# Altium schematic symbol library SamacSys.SchLib: 171 symbols (part 1 of 3)
Pins are listed as number, name and electrical type; pins without a type are passive.

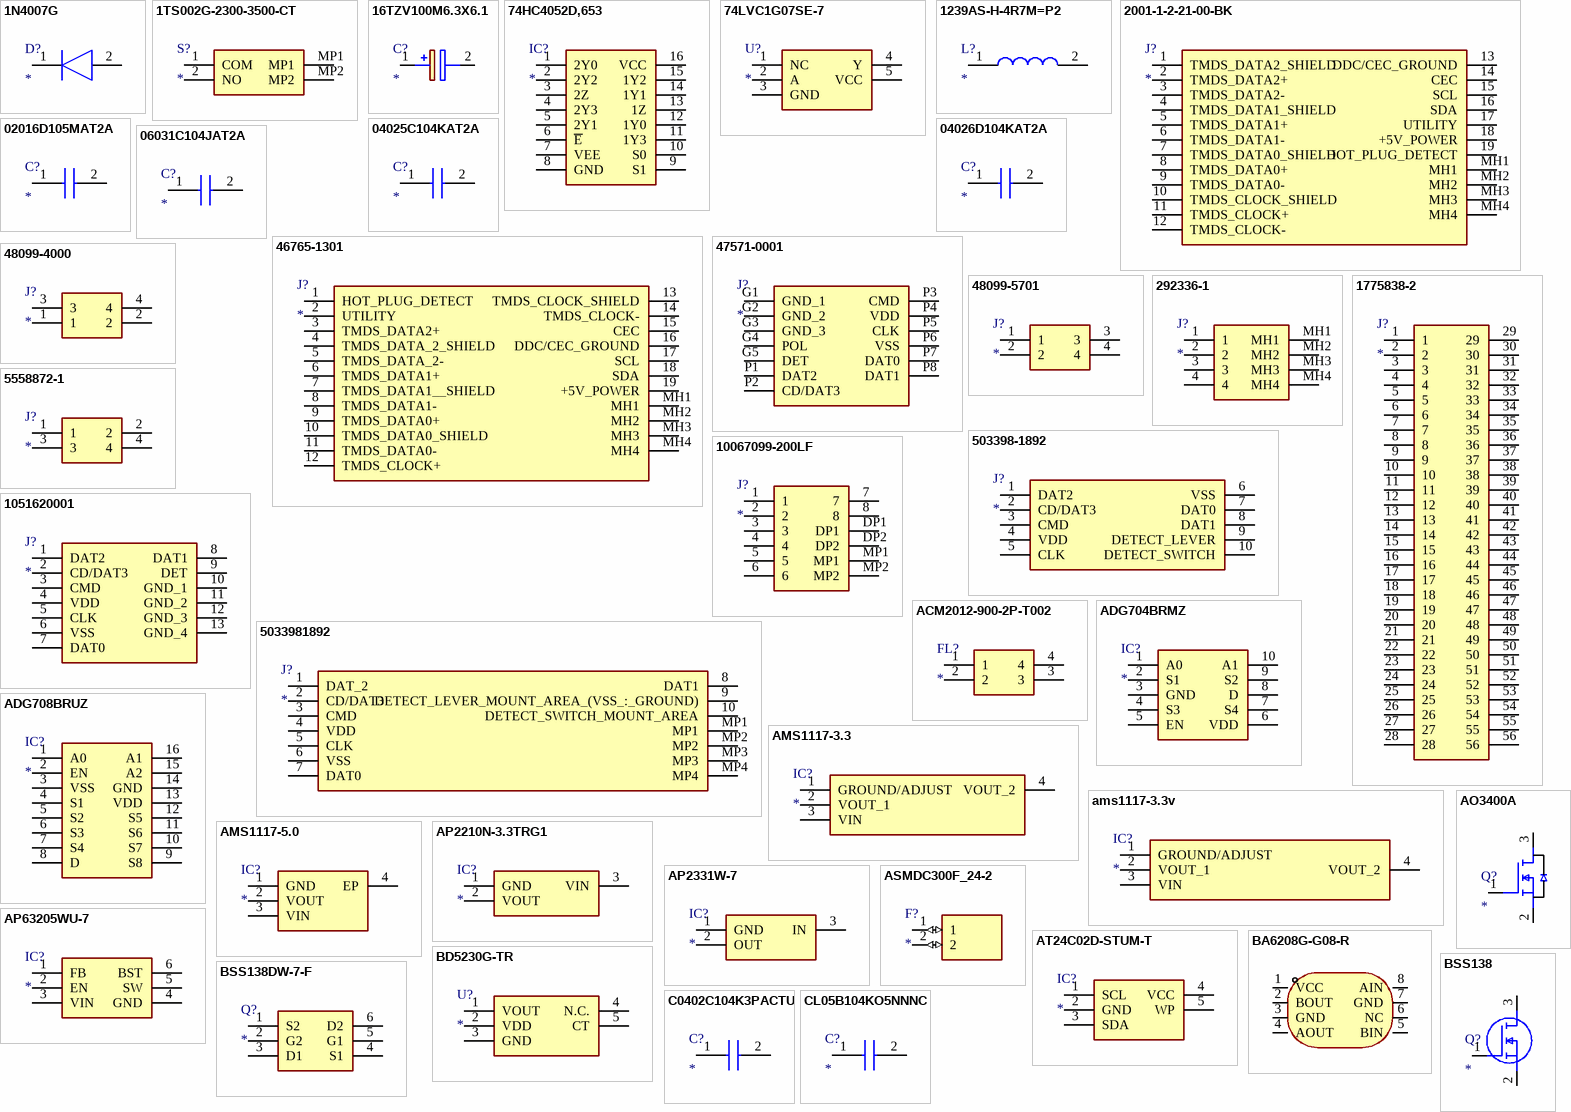
[diagram p0: symbols 1N4007G to CL05B104KO5NNNC]

## 1N4007G
designator D?
Diode; Manufacturer_Name: Shikues; Manufacturer_Part_Number: 1N4007G; Datasheet Link: https://datasheet.lcsc.com/szlcsc/SK-1N4007G_C111122.pdf; Height: 2.2mm
footprint DIOM5025X220N
pins: 1 K, 2 A

## 1TS002G-2300-3500-CT
designator S?
Switch; Manufacturer_Name: HYP (Hongyuan Precision); Manufacturer_Part_Number: 1TS002G-2300-3500-CT; Datasheet Link: https://datasheet.lcsc.com/szlcsc/HYP-1TS002G-2300-3500_C319377.pdf; Height: 3.5mm
footprint 1TS002G23003500CT
pins: 1 COM, 2 NO, MP1, MP2

## 16TZV100M6.3X6.1
designator C?
Capacitor Polarised; Manufacturer_Name: Rubycon; Manufacturer_Part_Number: 16TZV100M6.3X6.1; Datasheet Link: http://www.rubycon.co.jp/catalog/j_pdfs/aluminum/j_TZV.pdf; Height: 6.1mm; Mouser Part Number: 232-16TZV100M6.3X6.1; Mouser Price/Stock: https://www.mouser.com/Search/Refine.aspx?Keyword=232-16TZV100M6.3X6.1
footprint 16TZV100M63X61
pins: 1 +, 2 -

## 74HC4052D,653
designator IC?
Integrated Circuit; Manufacturer_Name: Nexperia; Manufacturer_Part_Number: 74HC4052D,653; Datasheet Link: https://assets.nexperia.com/documents/data-sheet/74HC_HCT4052.pdf; Height: 1.75mm; Mouser Part Number: 771-74HC4052D-T; Mouser Price/Stock: https://www.mouser.co.uk/ProductDetail/Nexperia/74HC4052D653?qs=P62ublwmbi9dOtwH%252Bhrppg%3D%3D; Arrow Part Number: 74HC4052D,653; Arrow Price/Stock: https://www.arrow.com/en/products/74hc4052d653/nexperia?region=europe
footprint 74HC4052D653
pins: 1 2Y0, 2 2Y2, 3 2Z, 4 2Y3, 5 2Y1, 6 ~{E}, 7 VEE, 8 GND, 9 S1, 10 S0, 11 1Y3, 12 1Y0, 13 1Z, 14 1Y1, 15 1Y2, 16 VCC

## 74LVC1G07SE-7
designator U?
Undefined or Miscellaneous; Manufacturer_Name: Diodes Inc.; Manufacturer_Part_Number: 74LVC1G07SE-7; Datasheet Link: https://componentsearchengine.com/Datasheets/2/74LVC1G07SE-7.pdf; Height: 1.1mm; Mouser Part Number: 621-74LVC1G07SE-7; Mouser Price/Stock: https://www.mouser.co.uk/ProductDetail/Diodes-Incorporated/74LVC1G07SE-7/?qs=abZ1nkZpTuNoZmx9wrxFdA%3D%3D; Arrow Part Number: 74LVC1G07SE-7; Arrow Price/Stock: https://www.arrow.com/en/products/74lvc1g07se-7/diodes-incorporated
footprint SOT65P210X110-5N
pins: 1 NC, 2 A, 3 GND, 4 Y, 5 VCC

## 1239AS-H-4R7M=P2
designator L?
Inductor; Manufacturer_Name: Murata Electronics; Manufacturer_Part_Number: 1239AS-H-4R7M=P2; Datasheet Link: https://psearch.en.murata.com/inductor/product/1239AS-H-4R7M%23.html; Height: 1.2mm; Arrow Part Number: 1239AS-H-4R7M=P2; Arrow Price/Stock: https://www.arrow.com/en/products/1239as-h-4r7mp2/murata-manufacturing; Mouser Part Number: 81-1239AS-H-4R7MP2; Mouser Price/Stock: https://www.mouser.co.uk/ProductDetail/Murata-Electronics/1239AS-H-4R7M%3dP2?qs=KuGPmAKtFKX7SH37MciNXQ%3D%3D
footprint DFE2HCAH1R0MJ0L
pins: 1, 2

## 2001-1-2-21-00-BK
designator J?
Connector; Manufacturer_Name: CNC Tech; Manufacturer_Part_Number: 2001-1-2-21-00-BK; Datasheet Link: http://cnctech.us/pdfs/2001-1-2-21-00-BK.pdf; Height: 3.3mm
footprint 2001122100BK
pins: 1 TMDS_DATA2_SHIELD, 2 TMDS_DATA2+, 3 TMDS_DATA2-, 4 TMDS_DATA1_SHIELD, 5 TMDS_DATA1+, 6 TMDS_DATA1-, 7 TMDS_DATA0_SHIELD, 8 TMDS_DATA0+, 9 TMDS_DATA0-, 10 TMDS_CLOCK_SHIELD, 11 TMDS_CLOCK+, 12 TMDS_CLOCK-, 13 DDC/CEC_GROUND, 14 CEC, 15 SCL, 16 SDA, 17 UTILITY, 18 +5V_POWER, 19 HOT_PLUG_DETECT, MH1, MH2, MH3, MH4

## 02016D105MAT2A
designator C?
Capacitor; Manufacturer_Name: AVX; Manufacturer_Part_Number: 02016D105MAT2A; Datasheet Link: http://www.mouser.com/catalog/supplier/library/pdf/AVXSurfaceMountCeramic.pdf; Height: 0.33mm; Mouser Part Number: 581-02016D105MAT2A; Mouser Price/Stock: https://www.mouser.co.uk/ProductDetail/AVX/02016D105MAT2A?qs=RC%2FTMc7rOJYRv3ejaJ2Ykg%3D%3D; Arrow Part Number: 02016D105MAT2A; Arrow Price/Stock: https://www.arrow.com/en/products/02016d105mat2a/avx
footprint CAPC0603X33N
pins: 1, 2

## 04025C104KAT2A
designator C?
Capacitor; Manufacturer_Name: AVX; Manufacturer_Part_Number: 04025C104KAT2A; Datasheet Link: http://www.mouser.com/catalog/supplier/library/pdf/AVXSurfaceMountCeramic.pdf; Height: 0.56mm; Mouser Part Number: 581-04025C104KAT2A; Mouser Price/Stock: https://www.mouser.co.uk/ProductDetail/AVX/04025C104KAT2A?qs=ZBeOGGPQgEFYcwOskjAIVQ%3D%3D; Arrow Part Number: 04025C104KAT2A; Arrow Price/Stock: https://www.arrow.com/en/products/04025c104kat2a/avx
footprint CAPC1005X56N
pins: 1, 2

## 04026D104KAT2A
designator C?
Capacitor; Manufacturer_Name: AVX; Manufacturer_Part_Number: 04026D104KAT2A; Datasheet Link: http://www.mouser.com/catalog/supplier/library/pdf/AVXSurfaceMountCeramic.pdf; Height: 0.56mm; Mouser Part Number: 581-04026D104KAT2A; Mouser Price/Stock: https://www.mouser.co.uk/ProductDetail/AVX/04026D104KAT2A?qs=LLG2yGGJ5NhILwMziGI8Xg%3D%3D; Arrow Part Number: 04026D104KAT2A; Arrow Price/Stock: https://www.arrow.com/en/products/04026d104kat2a/avx
footprint CAPC1005X56N
pins: 1, 2

## 06031C104JAT2A
designator C?
Capacitor; Manufacturer_Name: AVX; Manufacturer_Part_Number: 06031C104JAT2A; Datasheet Link: https://componentsearchengine.com/Datasheets/1/06031A100FAT2A.pdf; Height: 0.9mm; Mouser Part Number: 581-06031C104JAT2A; Mouser Price/Stock: https://www.mouser.co.uk/ProductDetail/AVX/06031C104JAT2A?qs=%252BdQmOuGyFcHScrgcFLN%252BzA%3D%3D; Arrow Part Number: 06031C104JAT2A; Arrow Price/Stock: https://www.arrow.com/en/products/06031c104jat2a/avx
footprint CAPC1608X90N
pins: 1, 2

## 46765-1301
designator J?
Connector; Manufacturer_Name: Molex; Manufacturer_Part_Number: 46765-1301; Datasheet Link: https://www.molex.com/content/dam/molex/molex-dot-com/products/automated/en-us/salesdrawingpdf/467/46765/467651301_sd.pdf?inline; Height: 3.05mm; Mouser Part Number: 538-46765-1301; Mouser Price/Stock: https://www.mouser.co.uk/ProductDetail/Molex/46765-1301?qs=73RpG39PUGhn7Y4KPCbKEQ%3D%3D
footprint 467651301
pins: 1 HOT_PLUG_DETECT, 2 UTILITY, 3 TMDS_DATA2+, 4 TMDS_DATA_2_SHIELD, 5 TMDS_DATA_2-, 6 TMDS_DATA1+, 7 TMDS_DATA1__SHIELD, 8 TMDS_DATA1-, 9 TMDS_DATA0+, 10 TMDS_DATA0_SHIELD, 11 TMDS_DATA0-, 12 TMDS_CLOCK+, 13 TMDS_CLOCK_SHIELD, 14 TMDS_CLOCK-, 15 CEC, 16 DDC/CEC_GROUND, 17 SCL, 18 SDA, 19 +5V_POWER, MH1, MH2, MH3, MH4

## 47571-0001
designator J?
Connector; Manufacturer_Name: Molex; Manufacturer_Part_Number: 47571-0001; Datasheet Link: https://componentsearchengine.com/Datasheets/2/47571-0001.pdf; Height: 2.3mm; Mouser Part Number: 538-47571-0001; Mouser Price/Stock: https://www.mouser.co.uk/ProductDetail/Molex/47571-0001?qs=qM7ngqbhX5UTJOg9nqKLJQ%3D%3D
footprint 475710001
pins: G1 GND_1, G2 GND_2, G3 GND_3, G4 POL, G5 DET, P1 DAT2, P2 CD/DAT3, P3 CMD, P4 VDD, P5 CLK, P6 VSS, P7 DAT0, P8 DAT1

## 48099-4000
designator J?
Connector; Manufacturer_Name: Molex; Manufacturer_Part_Number: 48099-4000; Datasheet Link: https://media.digikey.com/pdf/Data%20Sheets/Molex%20PDFs/480994000_Dwg.pdf; Height: 4.8mm; Mouser Part Number: 538-48099-4000; Mouser Price/Stock: https://www.mouser.co.uk/ProductDetail/Molex/48099-4000?qs=dsreSLQWyj8b%2FXEoksc%2Fog%3D%3D
footprint 480994000
pins: 1, 2, 3, 4

## 48099-5701
designator J?
Connector; Manufacturer_Name: Molex; Manufacturer_Part_Number: 48099-5701; Datasheet Link: https://datasheet.datasheetarchive.com/originals/distributors/Datasheets_SAMA/61a5d9b3c9f6d95e44c9954877d313ff.pdf; Mouser Part Number: 538-48099-5701; Mouser Price/Stock: https://www.mouser.co.uk/ProductDetail/Molex/48099-5701?qs=c2CV6XM0DweysdySMlAVtg%3D%3D
footprint 0480995701
pins: 1, 2, 3, 4

## 292336-1
designator J?
Connector; Manufacturer_Name: TE Connectivity; Manufacturer_Part_Number: 292336-1; Allied_Number: 70087057; Datasheet Link: https://componentsearchengine.com/Datasheets/2/292336-1.pdf; Height: 12.6mm; Mouser Part Number: 571-292336-1; Mouser Price/Stock: https://www.mouser.com/Search/Refine.aspx?Keyword=571-292336-1; RS Part Number: 5298230P; RS Price/Stock: http://uk.rs-online.com/web/p/products/5298230P; Allied Price/Stock: https://www.alliedelec.com/teconnectivity-292336-1/70087057/
footprint 2923361
pins: 1, 2, 3, 4, MH1, MH2, MH3, MH4

## 503398-1892
designator J?
Connector; Manufacturer_Name: Molex; Manufacturer_Part_Number: 503398-1892; Datasheet Link: http://www.molex.com/webdocs/datasheets/pdf/en-us//5033981892_MEMORY_CARD_SOCKET.pdf; Mouser Part Number: 538-503398-1892; Mouser Price/Stock: https://www.mouser.co.uk/ProductDetail/Molex/503398-1892?qs=b0v8CoHHvSMxV%252BW12iKaSg%3D%3D
footprint 503398-1892
pins: 1 DAT2, 2 CD/DAT3, 3 CMD, 4 VDD, 5 CLK, 6 VSS, 7 DAT0, 8 DAT1, 9 DETECT_LEVER, 10 DETECT_SWITCH

## 1775838-2
designator J?
Connector; Manufacturer_Name: TE Connectivity; Manufacturer_Part_Number: 1775838-2; Datasheet Link: http://www.te.com/commerce/DocumentDelivery/DDEController?Action=showdoc&DocId=Customer+Drawing%7F1775838%7FH%7Fpdf%7FEnglish%7FENG_CD_1775838_H.pdf%7F1775838-2; Height: 5mm; Mouser Part Number: 571-1775838-2; Mouser Price/Stock: https://www.mouser.com/Search/Refine.aspx?Keyword=571-1775838-2; RS Part Number: 1859871; RS Price/Stock: http://uk.rs-online.com/web/p/products/1859871
footprint 17758382
pins: 1, 2, 3, 4, 5, 6, 7, 8, 9, 10, 11, 12, 13, 14, 15, 16, 17, 18, 19, 20, 21, 22, 23, 24, 25, 26, 27, 28, 29, 30, 31, 32, 33, 34, 35, 36, 37, 38, 39, 40, 41, 42, 43, 44, 45, 46, 47, 48, 49, 50, 51, 52, 53, 54, 55, 56

## 5558872-1
designator J?
Connector; Manufacturer_Name: TE Connectivity; Manufacturer_Part_Number: 5558872-1; Datasheet Link: https://www.te.com/commerce/DocumentDelivery/DDEController?Action=showdoc&DocId=Customer+Drawing%7F5558872%7FC%7Fpdf%7FEnglish%7FENG_CD_5558872_C.pdf%7F5558872-1; Height: 16.64mm; Mouser Part Number: 571-5558872-1; Mouser Price/Stock: https://www.mouser.co.uk/ProductDetail/TE-Connectivity/5558872-1?qs=fnpEE5GccuM3joL9SkwpQg%3D%3D; Arrow Part Number: 5558872-1; Arrow Price/Stock: https://www.arrow.com/en/products/5558872-1/te-connectivity?region=nac
footprint 55588721
pins: 1, 2, 3, 4

## 10067099-200LF
designator J?
Connector; Manufacturer_Name: Amphenol Communications Solutions; Manufacturer_Part_Number: 10067099-200LF; Datasheet Link: https://cdn.amphenol-cs.com/media/wysiwyg/files/drawing/10067099.pdf; Height: 2.8mm; Mouser Part Number: 649-10067099-200LF; Mouser Price/Stock: https://www.mouser.co.uk/ProductDetail/Amphenol-FCI/10067099-200LF?qs=i4V1y6YhAeneA%2F%2FxXHdZ7w%3D%3D; Arrow Part Number: 10067099-200LF; Arrow Price/Stock: https://www.arrow.com/en/products/10067099-200lf/amphenol-fci?region=nac
footprint 10067099200LF
pins: 1, 2, 3, 4, 5, 6, 7, 8, DP1, DP2, MP1, MP2

## 1051620001
designator J?
Connector; Manufacturer_Name: Molex; Manufacturer_Part_Number: 1051620001; Datasheet Link: https://www.molex.com/pdm_docs/sd/1051620001_sd.pdf; Mouser Part Number: N/A; Mouser Price/Stock: https://www.mouser.com/Search/Refine.aspx?Keyword=N%2FA; Arrow Part Number: 1051620001; Arrow Price/Stock: https://www.arrow.com/en/products/105162-0001/molex?region=nac
footprint 1051620001
pins: 1 DAT2, 2 CD/DAT3, 3 CMD, 4 VDD, 5 CLK, 6 VSS, 7 DAT0, 8 DAT1, 9 DET, 10 GND_1, 11 GND_2, 12 GND_3, 13 GND_4

## 5033981892
designator J?
Connector; Manufacturer_Name: Molex; Manufacturer_Part_Number: 5033981892; Datasheet Link: https://www.molex.com/pdm_docs/sd/5033981892_sd.pdf; Height: 1.28mm; Mouser Part Number: N/A; Mouser Price/Stock: https://www.mouser.com/Search/Refine.aspx?Keyword=N%2FA; Arrow Part Number: 5033981892; Arrow Price/Stock: https://www.arrow.com/en/products/503398-1892/molex?region=nac
footprint 5033981892
pins: 1 DAT_2, 2 CD/DAT3, 3 CMD, 4 VDD, 5 CLK, 6 VSS, 7 DAT0, 8 DAT1, 9 DETECT_LEVER_MOUNT_AREA_(VSS_:_GROUND), 10 DETECT_SWITCH_MOUNT_AREA, MP1, MP2, MP3, MP4

## ACM2012-900-2P-T002
designator FL?
Filter; Manufacturer_Name: TDK; Manufacturer_Part_Number: ACM2012-900-2P-T002; Datasheet Link: https://product.tdk.com/system/files/dam/doc/product/emc/emc/cmf_cmc/catalog/cmf_commercial_signal_acm2012_en.pdf; Height: 1.3mm; Mouser Part Number: 810-ACM20129002PT002; Mouser Price/Stock: https://www.mouser.co.uk/ProductDetail/TDK/ACM2012-900-2P-T002?qs=vhEaPADELPHXWaCJFQVZjQ%3D%3D; Arrow Part Number: ACM2012-900-2P-T002; Arrow Price/Stock: https://www.arrow.com/en/products/acm2012-900-2p-t002/tdk?region=europe
footprint ACM20129002PT002
pins: 1, 2, 3, 4

## ADG704BRMZ
designator IC?
Integrated Circuit; Manufacturer_Name: Analog Devices; Manufacturer_Part_Number: ADG704BRMZ; Datasheet Link: http://docs-emea.rs-online.com/webdocs/077f/0900766b8077ff01.pdf; Height: 1.1mm; Mouser Part Number: 584-ADG704BRMZ; Mouser Price/Stock: https://www.mouser.com/Search/Refine.aspx?Keyword=584-ADG704BRMZ; RS Part Number: 5238761P; RS Price/Stock: http://uk.rs-online.com/web/p/products/5238761P
footprint SOP50P490X110-10N
pins: 1 A0, 2 S1, 3 GND (power), 4 S3, 5 EN, 6 VDD (power), 7 S4, 8 D, 9 S2, 10 A1

## ADG708BRUZ
designator IC?
Integrated Circuit; Manufacturer_Name: Analog Devices; Manufacturer_Part_Number: ADG708BRUZ; Datasheet Link: http://www.analog.com/static/imported-files/data_sheets/ADG708_709.pdf; Height: 1.2mm; Mouser Part Number: 584-ADG708BRUZ; Mouser Price/Stock: https://www.mouser.com/Search/Refine.aspx?Keyword=584-ADG708BRUZ; RS Part Number: 4973918P; RS Price/Stock: http://uk.rs-online.com/web/p/products/4973918P
footprint SOP65P640X120-16N
pins: 1 A0, 2 EN, 3 VSS (power), 4 S1, 5 S2, 6 S3, 7 S4, 8 D, 9 S8, 10 S7, 11 S6, 12 S5, 13 VDD (power), 14 GND (power), 15 A2, 16 A1

## AMS1117-3.3
designator IC?
Integrated Circuit; Manufacturer_Name: ams; Manufacturer_Part_Number: AMS1117-3.3; Datasheet Link: http://www.advanced-monolithic.com/pdf/ds1117.pdf; Height: 1.8mm
footprint SOT229P700X180-4N
pins: 1 GROUND/ADJUST, 2 VOUT_1, 3 VIN, 4 VOUT_2

## ams1117-3.3v
designator IC?
Integrated Circuit; Manufacturer_Name: Advanced Monolithic Systems; Manufacturer_Part_Number: ams1117-3.3v; Datasheet Link: http://www.advanced-monolithic.com/pdf/ds1117.pdf; Height: 1.8mm
footprint SOT229P700X180-4N
pins: 1 GROUND/ADJUST, 2 VOUT_1, 3 VIN, 4 VOUT_2

## AMS1117-5.0
designator IC?
Integrated Circuit; Manufacturer_Name: Shikues; Manufacturer_Part_Number: AMS1117-5.0; Datasheet Link: https://datasheet.lcsc.com/szlcsc/SK-AMS1117-5-0_C165483.pdf; Height: 1.8mm
footprint SOT290P700X180-4N
pins: 1 GND, 2 VOUT, 3 VIN, 4 EP

## AO3400A
designator Q?
MOSFET (N-Channel); Manufacturer_Name: Alpha & Omega Semiconductors; Manufacturer_Part_Number: AO3400A; Datasheet Link: http://aosmd.com/res/data_sheets/AO3400A.pdf; Height: 1.25mm; Arrow Part Number: AO3400A; Arrow Price/Stock: https://www.arrow.com/en/products/ao3400a/alpha-and-omega-semiconductor
footprint SOT95P280X125-3N
pins: 1 G, 2 S, 3 D

## AP2210N-3.3TRG1
designator IC?
Integrated Circuit; Manufacturer_Name: Diodes Inc.; Manufacturer_Part_Number: AP2210N-3.3TRG1; Datasheet Link: https://datasheet.datasheetarchive.com/originals/distributors/Datasheets_SAMA/11c7b06ddc65ce3f1395e62eca004054.pdf; Height: 1.45mm; Mouser Part Number: 621-AP2210N-3.3TRG1; Mouser Price/Stock: https://www.mouser.co.uk/ProductDetail/Diodes-Incorporated/AP2210N-3.3TRG1?qs=x6A8l6qLYDCg5Ghihwjj3A%3D%3D; Arrow Part Number: AP2210N-3.3TRG1; Arrow Price/Stock: https://www.arrow.com/en/products/ap2210n-3.3trg1/diodes-incorporated?region=europe
footprint SOT95P280X145-3N
pins: 1 GND, 2 VOUT, 3 VIN

## AP2331W-7
designator IC?
Integrated Circuit; Manufacturer_Name: Diodes Inc.; Manufacturer_Part_Number: AP2331W-7; Datasheet Link: https://componentsearchengine.com/Datasheets/1/AP2331W-7.pdf; Height: 1.3mm; Mouser Part Number: 621-AP2331W-7; Mouser Price/Stock: https://www.mouser.com/Search/Refine.aspx?Keyword=621-AP2331W-7; RS Part Number: 8287665P; RS Price/Stock: http://uk.rs-online.com/web/p/products/8287665P
footprint SOT95P285X130-3N
pins: 1 GND, 2 OUT, 3 IN

## AP63205WU-7
designator IC?
Integrated Circuit; Manufacturer_Name: Diodes Incorporated; Manufacturer_Part_Number: AP63205WU-7; Datasheet Link: https://www.diodes.com/assets/Datasheets/AP63200-AP63201-AP63203-AP63205.pdf; Height: 1mm; Mouser Part Number: 621-AP63205WU-7; Mouser Price/Stock: https://www.mouser.co.uk/ProductDetail/Diodes-Incorporated/AP63205WU-7?qs=u16ybLDytRZtkj8PzdWCOw%3D%3D; Arrow Part Number: AP63205WU-7; Arrow Price/Stock: https://www.arrow.com/en/products/ap63205wu-7/diodes-incorporated?region=europe
footprint SOT95P280X100-6N
pins: 1 FB, 2 EN, 3 VIN, 4 GND, 5 SW, 6 BST

## ASMDC300F_24-2
designator F?
Fuse; Manufacturer_Name: LITTELFUSE; Manufacturer_Part_Number: ASMDC300F/24-2; Datasheet Link: https://www.littelfuse.com/~/media/electronics/product_specifications/resettable_ptcs/littelfuse_ptc_asmdc300f24_product_specification.pdf.pdf; Height: 1.1mm; Mouser Part Number: 650-ASMDC300F/24-2; Mouser Price/Stock: https://www.mouser.com/Search/Refine.aspx?Keyword=650-ASMDC300F%2F24-2
footprint FUSC7551X110N
pins: 1 (io), 2 (io)

## AT24C02D-STUM-T
designator IC?
Integrated Circuit; Manufacturer_Name: Microchip; Manufacturer_Part_Number: AT24C02D-STUM-T; Datasheet Link: http://www.microchip.com/mymicrochip/filehandler.aspx?ddocname=en590275; Height: 1.1mm; Mouser Part Number: 556-AT24C02D-STUM-T; Mouser Price/Stock: https://www.mouser.co.uk/ProductDetail/Microchip-Technology/AT24C02D-STUM-T?qs=l5F7KFZg3O4Jn%2FWWCVhgNg%3D%3D; Arrow Part Number: AT24C02D-STUM-T; Arrow Price/Stock: https://www.arrow.com/en/products/at24c02d-stum-t/microchip-technology?region=nac
footprint SOT95P280X110-5N
pins: 1 SCL, 2 GND, 3 SDA, 4 VCC, 5 WP

## BA6208G-G08-R
designator IC?  (value not drawn)
电机驱动芯片; Manufacturer: UTC(友顺); Manufacturer Part: BA6208G-S08-R
footprint SOIC127P600X175-8N
pins: 1 VCC, 2 BOUT, 3 GND, 4 AOUT, 5 BIN, 6 NC, 7 GND, 8 AIN

## BD5230G-TR
designator U?
Undefined or Miscellaneous; Manufacturer_Name: ROHM Semiconductor; Manufacturer_Part_Number: BD5230G-TR; Allied_Number: 70521933; Datasheet Link: http://rohmfs.rohm.com/en/products/databook/datasheet/ic/power/voltage_detector/bd52xxg-e.pdf; Height: 1.25mm; Mouser Part Number: 755-BD5230G-TR; Mouser Price/Stock: https://www.mouser.com/Search/Refine.aspx?Keyword=755-BD5230G-TR; RS Part Number: 7003132P; RS Price/Stock: http://uk.rs-online.com/web/p/products/7003132P; Allied Price/Stock: https://www.alliedelec.com/rohm-semiconductor-bd5230g-tr/70521933/
footprint SOT95P280X125-5N
pins: 1 VOUT, 2 VDD, 3 GND, 4 N.C., 5 CT

## BSS138
designator Q?
MOSFET (N-Channel); Manufacturer_Name: ON Semiconductor; Manufacturer_Part_Number: BSS138; Datasheet Link: https://www.onsemi.com/pub/Collateral/BSS138-D.PDF; Height: 1.2mm; Mouser Part Number: 512-BSS138; Mouser Price/Stock: https://www.mouser.com/Search/Refine.aspx?Keyword=512-BSS138; RS Part Number: 6710324P; RS Price/Stock: http://uk.rs-online.com/web/p/products/6710324P
footprint SOT95P240X120-3N
pins: 1 G, 2 S, 3 D

## BSS138DW-7-F
designator Q?
Transistor; Manufacturer_Name: Diodes Inc.; Manufacturer_Part_Number: BSS138DW-7-F; Datasheet Link: http://uk.rs-online.com/web/p/products/1219436; Height: 1.1mm; Arrow Part Number: BSS138DW-7-F; Arrow Price/Stock: https://www.arrow.com/en/products/bss138dw-7-f/diodes-incorporated; Mouser Part Number: 621-BSS138DW-F; Mouser Price/Stock: https://www.mouser.co.uk/ProductDetail/Diodes-Incorporated/BSS138DW-7-F?qs=rGAXPo9uwV10UlZnPRLyGg%3D%3D
footprint SOT65P210X110-6N
pins: 1 S2, 2 G2, 3 D1, 4 S1, 5 G1, 6 D2

## C0402C104K3PACTU
designator C?
Capacitor; Manufacturer_Name: Kemet; Manufacturer_Part_Number: C0402C104K3PACTU; Datasheet Link: https://content.kemet.com/datasheets/KEM_C1002_X7R_SMD.pdf; Height: 0.55mm; Mouser Part Number: 80-C0402C104K3P; Mouser Price/Stock: https://www.mouser.co.uk/ProductDetail/KEMET/C0402C104K3PACTU?qs=gt1LBUVyoHnkmt1KfrmtmQ%3D%3D; Arrow Part Number: C0402C104K3PACTU; Arrow Price/Stock: https://www.arrow.com/en/products/c0402c104k3pactu/kemet-corporation
footprint CAPC1005X55N
pins: 1, 2

## CL05B104KO5NNNC
designator C?
Capacitor; Manufacturer_Name: Samsung Electro-Mechanics; Manufacturer_Part_Number: CL05B104KO5NNNC; Datasheet Link: http://www.samsungsem.com/kr/support/product-search/mlcc/CL05B104KO5NNNC.jsp; Height: 0.55mm; Mouser Part Number: N/A; Mouser Price/Stock: https://www.mouser.com/Search/Refine.aspx?Keyword=N%2FA; RS Part Number: 7661299; RS Price/Stock: http://uk.rs-online.com/web/p/products/7661299
footprint CAPC1005X55N
pins: 1, 2

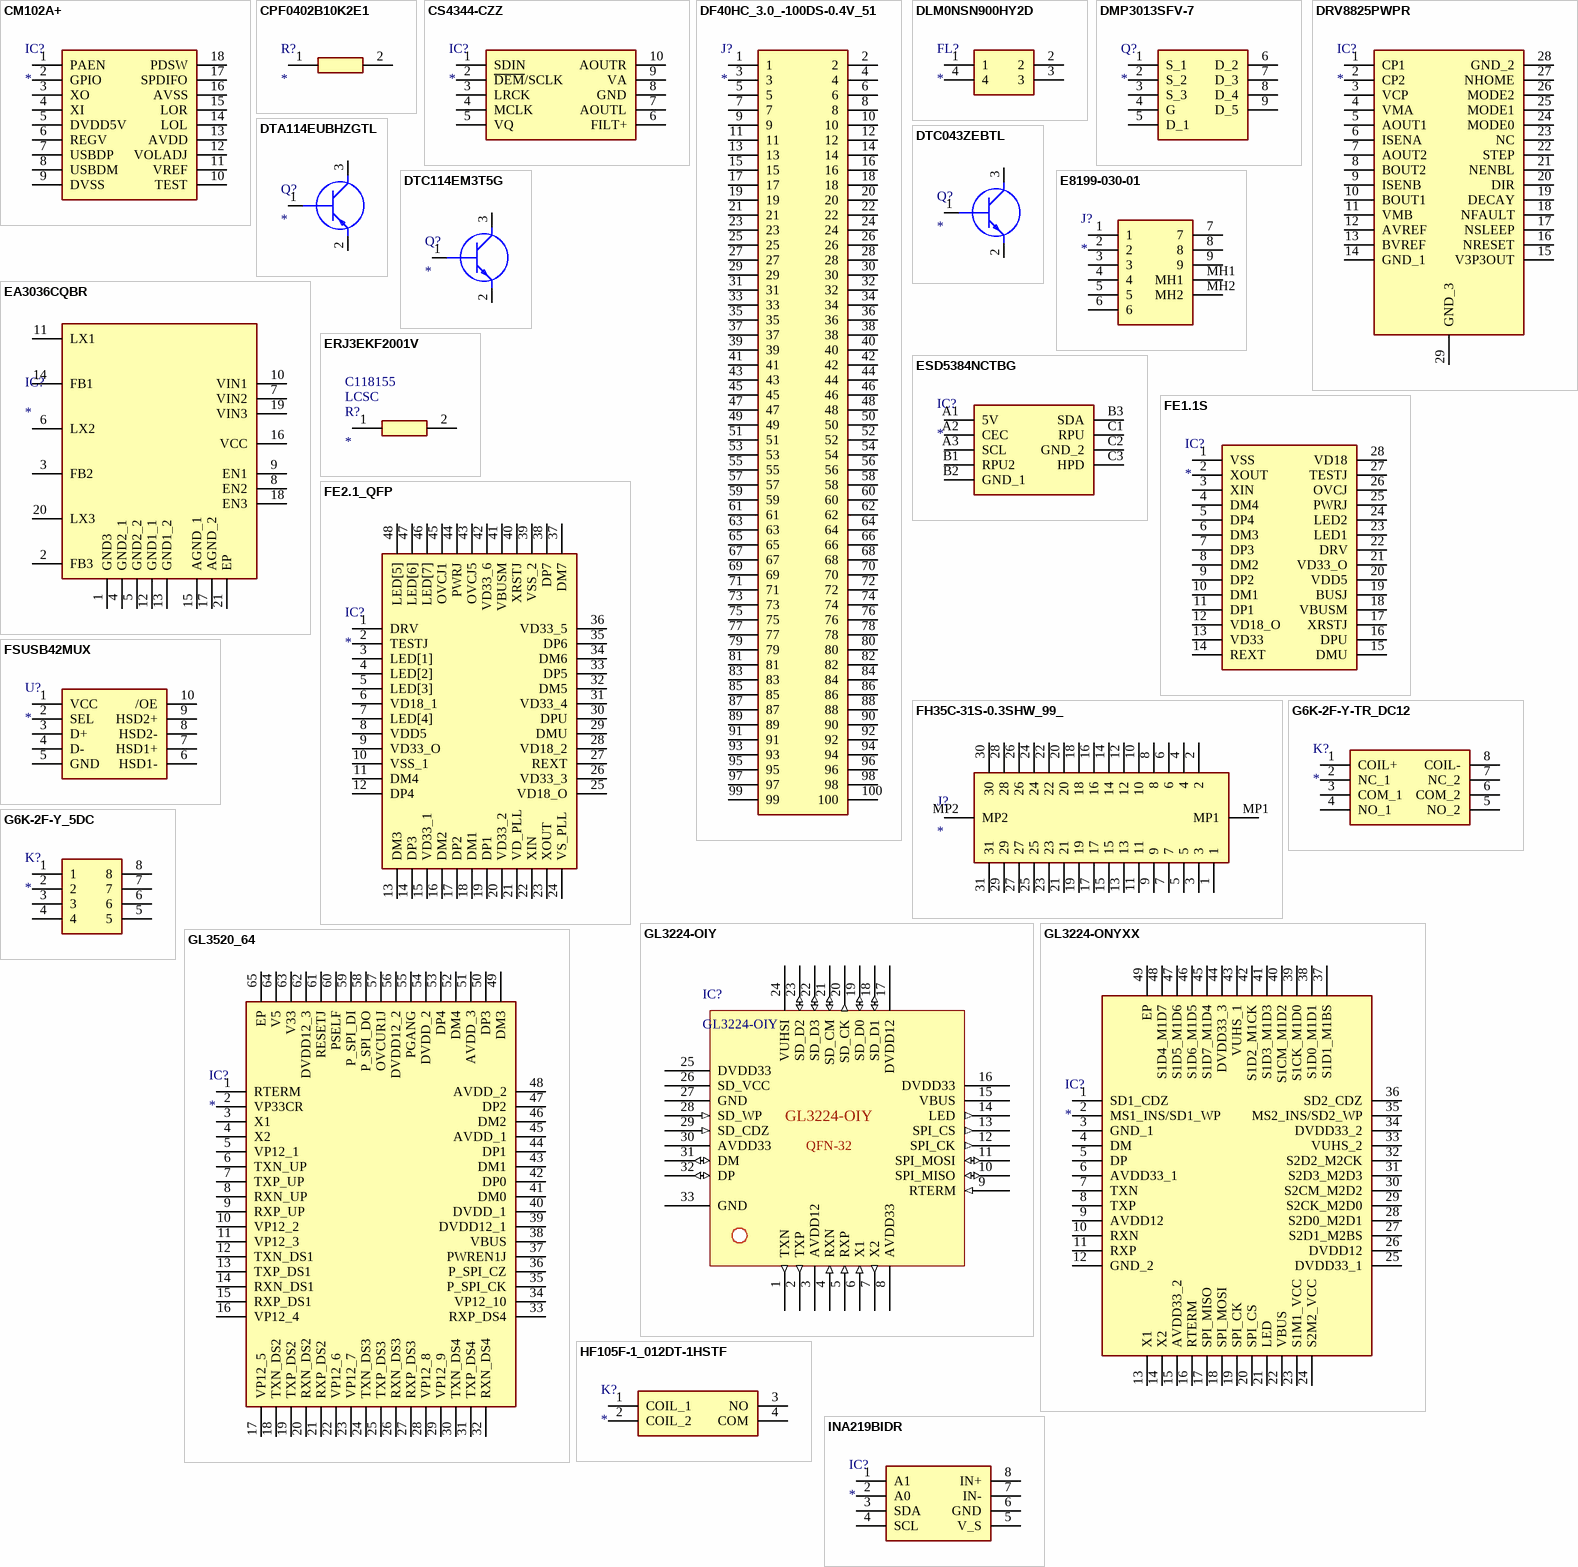
[diagram p1: symbols CM102A+ to INA219BIDR]

## CM102A+
designator IC?
Integrated Circuit; Manufacturer_Name: C-MEDIA ELECTRONICS INC; Manufacturer_Part_Number: CM102A+; Datasheet Link: https://www.cmedia.com.tw/support/download_center?type=501_datasheet; Height: 5.334mm
footprint DIP762W46P254L2286H533Q18N
pins: 1 PAEN, 2 GPIO, 3 XO, 4 XI, 5 DVDD5V, 6 REGV, 7 USBDP, 8 USBDM, 9 DVSS, 10 TEST, 11 VREF, 12 VOLADJ, 13 AVDD, 14 LOL, 15 LOR, 16 AVSS, 17 SPDIFO, 18 PDSW

## CPF0402B10K2E1
designator R?
Resistor; Manufacturer_Name: TE Connectivity; Manufacturer_Part_Number: CPF0402B10K2E1; Allied_Number: 70286155; Datasheet Link: http://www.farnell.com/datasheets/1786775.pdf; Height: 0.35mm; Mouser Part Number: 279-CPF0402B10K2E1; Mouser Price/Stock: https://www.mouser.com/Search/Refine.aspx?Keyword=279-CPF0402B10K2E1; RS Part Number: 7015028P; RS Price/Stock: http://uk.rs-online.com/web/p/products/7015028P; Allied Price/Stock: https://www.alliedelec.com/te-connectivity-cpf0402b10k2e1/70286155/
footprint RESC1005X35N
pins: 1, 2

## CS4344-CZZ
designator IC?
Integrated Circuit; Manufacturer_Name: Cirrus Logic; Manufacturer_Part_Number: CS4344-CZZ; Datasheet Link: http://www.mouser.com/ds/2/76/CS4344-45-48_F2-472818.pdf; Height: 1.1mm; Mouser Part Number: 777-CS4344-CZZ; Mouser Price/Stock: https://www.mouser.co.uk/ProductDetail/Cirrus-Logic/CS4344-CZZ?qs=bUPhaerQQeHFJRWtIjW9Ww%3D%3D
footprint SOP50P490X110-10N
pins: 1 SDIN, 2 ~{DEM}/SCLK, 3 LRCK, 4 MCLK, 5 VQ, 6 FILT+, 7 AOUTL, 8 GND, 9 VA, 10 AOUTR

## DF40HC_3.0_-100DS-0.4V_51
designator J?
Connector; Manufacturer_Name: Hirose; Manufacturer_Part_Number: DF40HC(3.0)-100DS-0.4V(51; Datasheet Link: https://componentsearchengine.com/Datasheets/1/DF40HC(3.0)-100DS-0.4V(51.pdf; Height: 3.05mm; Mouser Part Number: 798-DF40HC30100DS451; Mouser Price/Stock: https://www.mouser.co.uk/ProductDetail/Hirose-Connector/DF40HC3.0-100DS-0.4V51?qs=%252BAZVS4b%2FkgIV%252B3vHYy2dCA%3D%3D; Arrow Part Number: DF40HC(3.0)-100DS-0.4V(51; Arrow Price/Stock: https://www.arrow.com/en/products/df40hc-3.0-100ds-0.4v-51/hirose-electric
footprint DF40HC30100DS04V51
pins: 1, 2, 3, 4, 5, 6, 7, 8, 9, 10, 11, 12, 13, 14, 15, 16, 17, 18, 19, 20, 21, 22, 23, 24, 25, 26, 27, 28, 29, 30, 31, 32, 33, 34, 35, 36, 37, 38, 39, 40, 41, 42, 43, 44, 45, 46, 47, 48, 49, 50, 51, 52, 53, 54, 55, 56, 57, 58, 59, 60, 61, 62, 63, 64, 65, 66, 67, 68, 69, 70, 71, 72, 73, 74, 75, 76, 77, 78, 79, 80, 81, 82, 83, 84, 85, 86, 87, 88, 89, 90, 91, 92, 93, 94, 95, 96, 97, 98, 99, 100

## DLM0NSN900HY2D
designator FL?
Filter; Manufacturer_Name: Murata Electronics; Manufacturer_Part_Number: DLM0NSN900HY2D; Datasheet Link: https://www.murata.com/en-us/products/productdetail?partno=DLM0NSN900HY2%23; Height: 0.5mm; Arrow Part Number: DLM0NSN900HY2D; Arrow Price/Stock: https://www.arrow.com/en/products/dlm0nsn900hy2d/murata-manufacturing; Mouser Part Number: 81-DLM0NSN900HY2D; Mouser Price/Stock: https://www.mouser.co.uk/ProductDetail/Murata-Electronics/DLM0NSN900HY2D?qs=lEfY3O89AqnvSXN6mgZhNw%3D%3D
footprint DLM0NSB120HY2B
pins: 1, 2, 3, 4

## DMP3013SFV-7
designator Q?
MOSFET (P-Channel); Manufacturer_Name: Diodes Inc.; Manufacturer_Part_Number: DMP3013SFV-7; Datasheet Link: https://4donline.ihs.com/images/VipMasterIC/IC/DIOD/DIOD-S-A0008513542/DIOD-S-A0008513542-1.pdf?hkey=52A5661711E402568146F3353EA87419; Height: 0.85mm; Mouser Part Number: 621-DMP3013SFV-7; Mouser Price/Stock: https://www.mouser.co.uk/ProductDetail/Diodes-Incorporated/DMP3013SFV-7?qs=W0yvOO0ixfH1hnmiAtL1VQ%3D%3D; Arrow Part Number: DMP3013SFV-7; Arrow Price/Stock: https://www.arrow.com/en/products/dmp3013sfv-7/diodes-incorporated
footprint DMP3013SFV7
pins: 1 S_1, 2 S_2, 3 S_3, 4 G, 5 D_1, 6 D_2, 7 D_3, 8 D_4, 9 D_5

## DRV8825PWPR
designator IC?
Integrated Circuit; Manufacturer_Name: Texas Instruments; Manufacturer_Part_Number: DRV8825PWPR; Datasheet Link: http://www.ti.com/lit/gpn/drv8825; Height: 1.2mm; Mouser Part Number: 595-DRV8825PWPR; Mouser Price/Stock: https://www.mouser.co.uk/ProductDetail/Texas-Instruments/DRV8825PWPR?qs=L4ss%2FyqpMWRQV%252B0JWK8r%2FQ%3D%3D; Arrow Part Number: DRV8825PWPR; Arrow Price/Stock: https://www.arrow.com/en/products/drv8825pwpr/texas-instruments?region=nac
footprint SOP65P640X120-29N
pins: 1 CP1, 2 CP2, 3 VCP, 4 VMA, 5 AOUT1, 6 ISENA, 7 AOUT2, 8 BOUT2, 9 ISENB, 10 BOUT1, 11 VMB, 12 AVREF, 13 BVREF, 14 GND_1, 15 V3P3OUT, 16 NRESET, 17 NSLEEP, 18 NFAULT, 19 DECAY, 20 DIR, 21 NENBL, 22 STEP, 23 NC, 24 MODE0, 25 MODE1, 26 MODE2, 27 NHOME, 28 GND_2, 29 GND_3

## DTA114EUBHZGTL
designator Q?
Transistor BJT PNP; Manufacturer_Name: ROHM Semiconductor; Manufacturer_Part_Number: DTA114EUBHZGTL; Datasheet Link: https://www.rohm.com/datasheet/DTA114EUBHZG/dta114eubhzgtl-e; Height: 1.05mm; Mouser Part Number: 755-DTA114EUBHZGTL; Mouser Price/Stock: https://www.mouser.com/Search/Refine.aspx?Keyword=755-DTA114EUBHZGTL
footprint SOTFL65P210X105-3N
pins: 1 B, 2 E, 3 C

## DTC043ZEBTL
designator Q?
Transistor BJT NPN; Manufacturer_Name: ROHM Semiconductor; Manufacturer_Part_Number: DTC043ZEBTL; Datasheet Link: http://rohmfs.rohm.com/en/products/databook/datasheet/discrete/transistor/digital/dtc043zmt2l-e.pdf; Height: 0.85mm; Arrow Part Number: DTC043ZEBTL; Mouser Part Number: 755-DTC043ZEBTL; Mouser Price/Stock: https://www.mouser.co.uk/ProductDetail/ROHM-Semiconductor/DTC043ZEBTL?qs=n7vHx8wJlDGyWrBOh0icRQ%3D%3D
footprint SOTFL50P160X85-3N
pins: 1 B, 2 E, 3 C

## DTC114EM3T5G
designator Q?
Transistor BJT NPN; Manufacturer_Name: ON Semiconductor; Manufacturer_Part_Number: DTC114EM3T5G; Datasheet Link: https://datasheet.lcsc.com/szlcsc/2002030902_ON-Semicon-ON-DTC114EM3T5G_C463449.pdf; Height: 0.55mm; Mouser Part Number: 863-DTC114EM3T5G; Mouser Price/Stock: https://www.mouser.co.uk/ProductDetail/ON-Semiconductor/DTC114EM3T5G?qs=2OtswVQKCOGuqjTRmtOO9w%3D%3D; Arrow Part Number: DTC114EM3T5G; Arrow Price/Stock: https://www.arrow.com/en/products/dtc114em3t5g/on-semiconductor?region=nac
footprint DTC114EM3T5G
pins: 1 B, 2 E, 3 C

## E8199-030-01
designator J?
Connector; Manufacturer_Name: Pulse; Manufacturer_Part_Number: E8199-030-01; Datasheet Link: https://productfinder.pulseeng.com/doc_type/WEB301/doc_num/E8199-030-01/doc_part/E8199-030-01.pdf; Height: 12.9mm; Mouser Part Number: 673-E8199-030-01; Mouser Price/Stock: https://www.mouser.co.uk/ProductDetail/Pulse-Electronics/E8199-030-01?qs=fi7yB2oewZks%2FMZaaPk%2FJA%3D%3D; Arrow Part Number: E8199-030-01; Arrow Price/Stock: https://www.arrow.com/en/products/e8199-030-01/pulse-electronics-corporation
footprint E819903001
pins: 1, 2, 3, 4, 5, 6, 7, 8, 9, MH1, MH2

## EA3036CQBR
designator IC?
Integrated Circuit; Manufacturer_Name: Ever Analog; Manufacturer_Part_Number: EA3036CQBR; Datasheet Link: http://club.szlcsc.com/article/downFile_D72C44885C60F9F1.html; Height: 0.8mm
footprint QFN40P300X300X80-21N
pins: 1 GND3, 2 FB3, 3 FB2, 4 GND2_1, 5 GND2_2, 6 LX2, 7 VIN2, 8 EN2, 9 EN1, 10 VIN1, 11 LX1, 12 GND1_1, 13 GND1_2, 14 FB1, 15 AGND_1, 16 VCC, 17 AGND_2, 18 EN3, 19 VIN3, 20 LX3, 21 EP

## ERJ3EKF2001V
designator R?  Supplier 1: LCSC  Supplier Part Number 1: C118155
Resistor; Manufacturer_Name: Panasonic; Manufacturer_Part_Number: ERJ3EKF2001V; Allied_Number: 70264628; Datasheet Link: http://industrial.panasonic.com/cdbs/www-data/pdf/RDA0000/AOA0000C86.pdf; Height: 0.55mm; RS Part Number: 1058464; RS Price/Stock: http://uk.rs-online.com/web/p/products/1058464; Allied Price/Stock: https://www.alliedelec.com/panasonic-erj-3ekf2001v/70264628/
footprint RESC1608X55N
pins: 1, 2

## ESD5384NCTBG
designator IC?
Integrated Circuit; Manufacturer_Name: ON Semiconductor; Manufacturer_Part_Number: ESD5384NCTBG; Allied_Number: 70466034; Datasheet Link: http://www.onsemi.com/pub/Collateral/ESD5384-D.PDF; Height: 0.63mm; Mouser Part Number: 863-ESD5384NCTBG; Mouser Price/Stock: https://www.mouser.com/Search/Refine.aspx?Keyword=863-ESD5384NCTBG; RS Part Number: 8010213P; RS Price/Stock: http://uk.rs-online.com/web/p/products/8010213P; Allied Price/Stock: http://www.alliedelec.com/on-semiconductor-esd5384nctbg/70466034/
footprint BGA9C40P3X3_114X114X63
pins: A1 5V, A2 CEC, A3 SCL, B1 RPU2, B2 GND_1 (power), B3 SDA, C1 RPU, C2 GND_2 (power), C3 HPD

## FE1.1S
designator IC?
Integrated Circuit; Manufacturer_Name: JFD IC; Manufacturer_Part_Number: FE1.1S; Datasheet Link: https://cdn-shop.adafruit.com/product-files/2991/FE1.1s+Data+Sheet+(Rev.+1.0).pdf; Height: 1.75mm
footprint SOP64P600X175-28N
pins: 1 VSS, 2 XOUT, 3 XIN, 4 DM4, 5 DP4, 6 DM3, 7 DP3, 8 DM2, 9 DP2, 10 DM1, 11 DP1, 12 VD18_O, 13 VD33, 14 REXT, 15 DMU, 16 DPU, 17 XRSTJ, 18 VBUSM, 19 BUSJ, 20 VDD5, 21 VD33_O, 22 DRV, 23 LED1, 24 LED2, 25 PWRJ, 26 OVCJ, 27 TESTJ, 28 VD18

## FE2.1_QFP
designator IC?
Integrated Circuit; Manufacturer_Name: Terminus Technology; Manufacturer_Part_Number: FE2.1_QFP; Datasheet Link: http://www.35ic.net/ui/docs/assets/img/1458708200035.PDF; Height: 1.6mm
footprint QFP50P900X900X160-48N
pins: 1 DRV, 2 TESTJ, 3 LED[1], 4 LED[2], 5 LED[3], 6 VD18_1, 7 LED[4], 8 VDD5, 9 VD33_O, 10 VSS_1, 11 DM4, 12 DP4, 13 DM3, 14 DP3, 15 VD33_1, 16 DM2, 17 DP2, 18 DM1, 19 DP1, 20 VD33_2, 21 VD_PLL, 22 XIN, 23 XOUT, 24 VS_PLL, 25 VD18_O, 26 VD33_3, 27 REXT, 28 VD18_2, 29 DMU, 30 DPU, 31 VD33_4, 32 DM5, 33 DP5, 34 DM6, 35 DP6, 36 VD33_5, 37 DM7, 38 DP7, 39 VSS_2, 40 XRSTJ, 41 VBUSM, 42 VD33_6, 43 OVCJ5, 44 PWRJ, 45 OVCJ1, 46 LED[7], 47 LED[6], 48 LED[5]

## FH35C-31S-0.3SHW_99_
designator J?
Connector; Manufacturer_Name: Hirose; Manufacturer_Part_Number: FH35C-31S-0.3SHW(99); Datasheet Link: https://www.hirose.com/product/document?clcode=CL0580-2923-7-99&productname=FH35C-31S-0.3SHW(99)&series=FH35C&documenttype=2DDrawing&lang=en&documentid=0001002013; Height: 1.8mm; Mouser Part Number: 798-FH35C31S03SHW99; Mouser Price/Stock: https://www.mouser.com/Search/Refine.aspx?Keyword=798-FH35C31S03SHW99
footprint FH35C31S03SHW99
pins: 1, 2, 3, 4, 5, 6, 7, 8, 9, 10, 11, 12, 13, 14, 15, 16, 17, 18, 19, 20, 21, 22, 23, 24, 25, 26, 27, 28, 29, 30, 31, MP1, MP2

## FSUSB42MUX
designator U?
Undefined or Miscellaneous; Manufacturer_Name: ON Semiconductor; Manufacturer_Part_Number: FSUSB42MUX; Datasheet Link: https://componentsearchengine.com/Datasheets/2/FSUSB42MUX.pdf; Height: 1.1mm; Mouser Part Number: 512-FSUSB42MUX; Mouser Price/Stock: https://www.mouser.com/Search/Refine.aspx?Keyword=512-FSUSB42MUX; RS Part Number: 7395144P; RS Price/Stock: http://uk.rs-online.com/web/p/products/7395144P
footprint SOP50P490X110-10N
pins: 1 VCC, 2 SEL, 3 D+, 4 D-, 5 GND, 6 HSD1-, 7 HSD1+ (power), 8 HSD2-, 9 HSD2+, 10 /OE

## G6K-2F-Y-TR_DC12
designator K?
Relay or Contactor; Manufacturer_Name: Omron Electronics; Manufacturer_Part_Number: G6K-2F-Y-TR DC12; Datasheet Link: https://omronfs.omron.com/en_US/ecb/products/pdf/en-g6k.pdf; Height: 5.4mm; Mouser Part Number: 653-G6K-2F-Y-TRDC12; Mouser Price/Stock: https://www.mouser.co.uk/ProductDetail/Omron-Electronics/G6K-2F-Y-TR-DC12?qs=PlsTXiR3SngsZ78tKExSJg%3D%3D
footprint G6K2FYTRDC12
pins: 1 COIL+, 2 NC_1, 3 COM_1, 4 NO_1, 5 NO_2, 6 COM_2, 7 NC_2, 8 COIL-

## G6K-2F-Y_5DC
designator K?
Relay or Contactor; Manufacturer_Name: Omron Electronics; Manufacturer_Part_Number: G6K-2F-Y 5DC; Datasheet Link: http://omronfs.omron.com/en_US/ecb/products/pdf/en-g6k.pdf
footprint G6K-2F-Y
pins: 1, 2, 3, 4, 5, 6, 7, 8

## GL3224-OIY
designator IC?
Integrated Ciruit
footprint QFN50P500X500X75_HS-33N (QFN, 32-Leads, Body 5.00x5.00mm, Pitch 0.50mm, Thermal Pad 3.00x3.00mm, IPC Medium Density)
pins: 1 TXN (out), 2 TXP (out), 3 AVDD12 (power), 4 RXN (in), 5 RXP (in), 6 X1 (in), 7 X2 (out), 8 AVDD33 (power), 9 RTERM (in), 10 SPI_MISO (io), 11 SPI_MOSI (io), 12 SPI_CK (out), 13 SPI_CS (out), 14 LED (out), 15 VBUS (power), 16 DVDD33 (power), 17 DVDD12 (power), 18 SD_D1 (io), 19 SD_D0 (io), 20 SD_CK (out), 21 SD_CM (io), 22 SD_D3 (io), 23 SD_D2 (io), 24 VUHSI (power), 25 DVDD33 (power), 26 SD_VCC (power), 27 GND (power), 28 SD_WP (in), 29 SD_CDZ (in), 30 AVDD33 (power), 31 DM (io), 32 DP (io), 33 GND
text: QFN-32

## GL3224-ONYXX
designator IC?
Integrated Circuit; Manufacturer_Name: Genesys; Manufacturer_Part_Number: GL3224-ONYXX; Datasheet Link: http://www.image.micros.com.pl/_dane_techniczne_auto/uigl3224-oiy.pdf; Height: 0.8mm
footprint QFN50P700X700X80-49N
pins: 1 SD1_CDZ, 2 MS1_INS/SD1_WP, 3 GND_1, 4 DM, 5 DP, 6 AVDD33_1, 7 TXN, 8 TXP, 9 AVDD12, 10 RXN, 11 RXP, 12 GND_2, 13 X1, 14 X2, 15 AVDD33_2, 16 RTERM, 17 SPI_MISO, 18 SPI_MOSI, 19 SPI_CK, 20 SPI_CS, 21 LED, 22 VBUS, 23 S1M1_VCC, 24 S2M2_VCC, 25 DVDD33_1, 26 DVDD12, 27 S2D1_M2BS, 28 S2D0_M2D1, 29 S2CK_M2D0, 30 S2CM_M2D2, 31 S2D3_M2D3, 32 S2D2_M2CK, 33 VUHS_2, 34 DVDD33_2, 35 MS2_INS/SD2_WP, 36 SD2_CDZ, 37 S1D1_M1BS, 38 S1D0_M1D1, 39 S1CK_M1D0, 40 S1CM_M1D2, 41 S1D3_M1D3, 42 S1D2_M1CK, 43 VUHS_1, 44 DVDD33_3, 45 S1D7_M1D4, 46 S1D6_M1D5, 47 S1D5_M1D6, 48 S1D4_M1D7, 49 EP

## GL3520_64
designator IC?
Integrated Circuit; Manufacturer_Name: Genesys; Manufacturer_Part_Number: GL3520 64; Datasheet Link: https://datasheet.lcsc.com/szlcsc/Genesys-Logic-GL3520-OVY22_C136620.pdf; Height: 0.8mm
footprint QFN40P800X800X80-65N-D
pins: 1 RTERM, 2 VP33CR, 3 X1, 4 X2, 5 VP12_1, 6 TXN_UP, 7 TXP_UP, 8 RXN_UP, 9 RXP_UP, 10 VP12_2, 11 VP12_3, 12 TXN_DS1, 13 TXP_DS1, 14 RXN_DS1, 15 RXP_DS1, 16 VP12_4, 17 VP12_5, 18 TXN_DS2, 19 TXP_DS2, 20 RXN_DS2, 21 RXP_DS2, 22 VP12_6, 23 VP12_7, 24 TXN_DS3, 25 TXP_DS3, 26 RXN_DS3, 27 RXP_DS3, 28 VP12_8, 29 VP12_9, 30 TXN_DS4, 31 TXP_DS4, 32 RXN_DS4, 33 RXP_DS4, 34 VP12_10, 35 P_SPI_CK, 36 P_SPI_CZ, 37 PWREN1J, 38 VBUS, 39 DVDD12_1, 40 DVDD_1, 41 DM0, 42 DP0, 43 DM1, 44 DP1, 45 AVDD_1, 46 DM2, 47 DP2, 48 AVDD_2, 49 DM3, 50 DP3, 51 AVDD_3, 52 DM4, 53 DP4, 54 DVDD_2, 55 PGANG, 56 DVDD12_2, 57 OVCUR1J, 58 P_SPI_DO, 59 P_SPI_DI, 60 PSELF, 61 RESETJ, 62 DVDD12_3, 63 V33, 64 V5, 65 EP

## HF105F-1_012DT-1HSTF
designator K?
Relay or Contactor; Manufacturer_Name: Hongfa; Manufacturer_Part_Number: HF105F-1/012DT-1HSTF; Datasheet Link: https://4donline.ihs.com/images/VipMasterIC/IC/XIMD/XIMD-S-A0007315443/XIMD-S-A0007315443-1.pdf?hkey=EF798316E3902B6ED9A73243A3159BB0; Height: 20.2mm
footprint HF105F1012DT1HSTF
pins: 1 COIL_1, 2 COIL_2, 3 NO, 4 COM

## INA219BIDR
designator IC?
Integrated Circuit; Manufacturer_Name: Texas Instruments; Manufacturer_Part_Number: INA219BIDR; Datasheet Link: https://www.ti.com/lit/ds/symlink/ina219.pdf?HQS=TI-null-null-digikeymode-df-pf-null-wwe&ts=1601223553719; Height: 1.75mm; Mouser Part Number: 595-INA219BIDR; Mouser Price/Stock: https://www.mouser.co.uk/ProductDetail/Texas-Instruments/INA219BIDR?qs=1WmUhT%2FVMINyGsXNJcdD5Q%3D%3D; Arrow Part Number: INA219BIDR; Arrow Price/Stock: https://www.arrow.com/en/products/ina219bidr/texas-instruments?region=nac
footprint SOIC127P600X175-8N
pins: 1 A1, 2 A0, 3 SDA, 4 SCL, 5 V_S, 6 GND, 7 IN-, 8 IN+

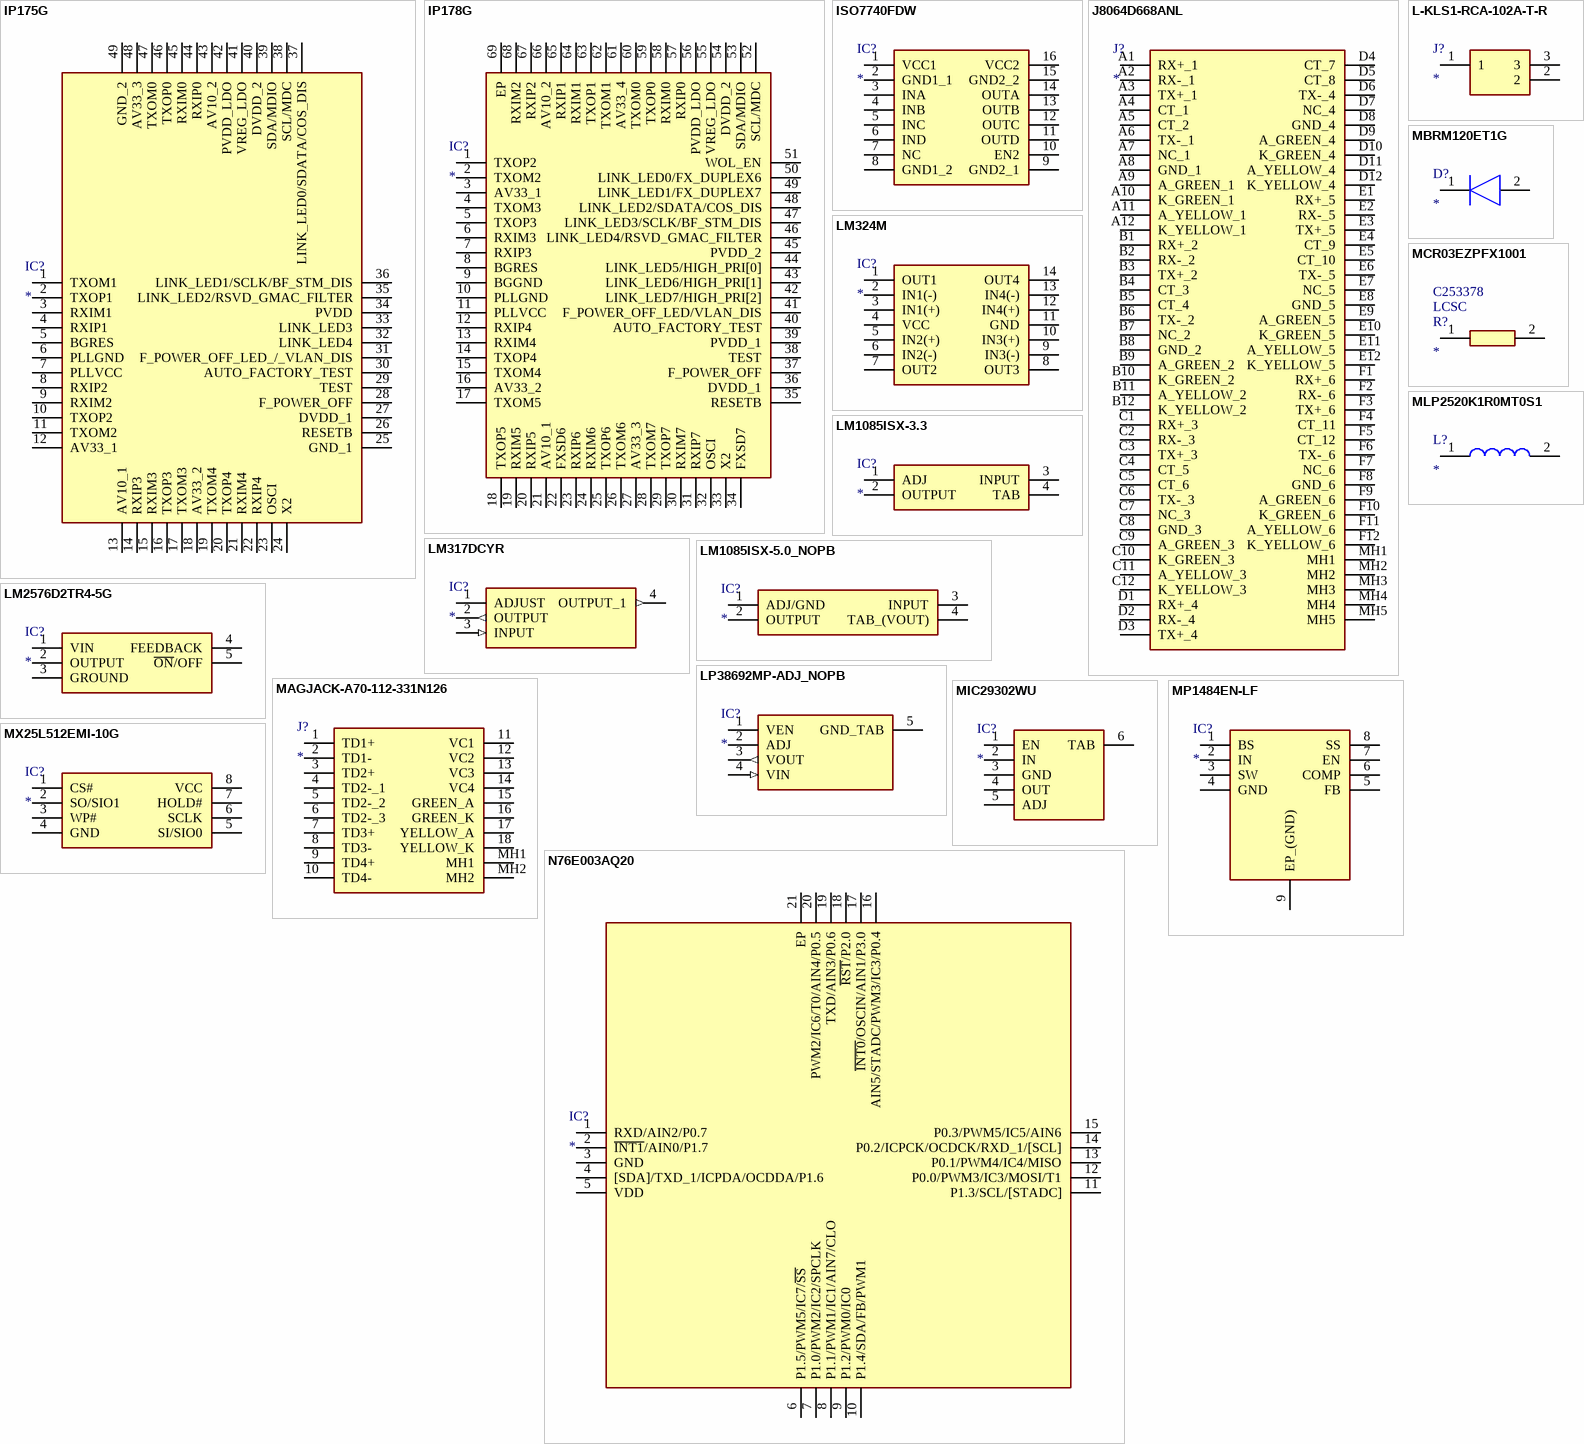
[diagram p2: symbols IP175G to N76E003AQ20]

## IP175G
designator IC?
Integrated Circuit; Manufacturer_Name: IC+; Manufacturer_Part_Number: IP175G; Height: 0.9mm
footprint QFN40P600X600X90-49N-D
pins: 1 TXOM1, 2 TXOP1, 3 RXIM1, 4 RXIP1, 5 BGRES, 6 PLLGND, 7 PLLVCC, 8 RXIP2, 9 RXIM2, 10 TXOP2, 11 TXOM2, 12 AV33_1, 13 AV10_1, 14 RXIP3, 15 RXIM3, 16 TXOP3, 17 TXOM3, 18 AV33_2, 19 TXOM4, 20 TXOP4, 21 RXIM4, 22 RXIP4, 23 OSCI, 24 X2, 25 GND_1, 26 RESETB, 27 DVDD_1, 28 F_POWER_OFF, 29 TEST, 30 AUTO_FACTORY_TEST, 31 F_POWER_OFF_LED_/_VLAN_DIS, 32 LINK_LED4, 33 LINK_LED3, 34 PVDD, 35 LINK_LED2/RSVD_GMAC_FILTER, 36 LINK_LED1/SCLK/BF_STM_DIS, 37 LINK_LED0/SDATA/COS_DIS, 38 SCL/MDC, 39 SDA/MDIO, 40 DVDD_2, 41 VREG_LDO, 42 PVDD_LDO, 43 AV10_2, 44 RXIP0, 45 RXIM0, 46 TXOP0, 47 TXOM0, 48 AV33_3, 49 GND_2

## IP178G
designator IC?
Integrated Circuit; Manufacturer_Name: IC+; Manufacturer_Part_Number: IP178G; Datasheet Link: http://41j.com/blog/wp-content/uploads/2016/08/IP178G_IC.pdf; Height: 0.9mm
footprint QFN40P800X800X90-69N-D
pins: 1 TXOP2, 2 TXOM2, 3 AV33_1, 4 TXOM3, 5 TXOP3, 6 RXIM3, 7 RXIP3, 8 BGRES, 9 BGGND, 10 PLLGND, 11 PLLVCC, 12 RXIP4, 13 RXIM4, 14 TXOP4, 15 TXOM4, 16 AV33_2, 17 TXOM5, 18 TXOP5, 19 RXIM5, 20 RXIP5, 21 AV10_1, 22 FXSD6, 23 RXIP6, 24 RXIM6, 25 TXOP6, 26 TXOM6, 27 AV33_3, 28 TXOM7, 29 TXOP7, 30 RXIM7, 31 RXIP7, 32 OSCI, 33 X2, 34 FXSD7, 35 RESETB, 36 DVDD_1, 37 F_POWER_OFF, 38 TEST, 39 PVDD_1, 40 AUTO_FACTORY_TEST, 41 F_POWER_OFF_LED/VLAN_DIS, 42 LINK_LED7/HIGH_PRI[2], 43 LINK_LED6/HIGH_PRI[1], 44 LINK_LED5/HIGH_PRI[0], 45 PVDD_2, 46 LINK_LED4/RSVD_GMAC_FILTER, 47 LINK_LED3/SCLK/BF_STM_DIS, 48 LINK_LED2/SDATA/COS_DIS, 49 LINK_LED1/FX_DUPLEX7, 50 LINK_LED0/FX_DUPLEX6, 51 WOL_EN, 52 SCL/MDC, 53 SDA/MDIO, 54 DVDD_2, 55 VREG_LDO, 56 PVDD_LDO, 57 RXIP0, 58 RXIM0, 59 TXOP0, 60 TXOM0, 61 AV33_4, 62 TXOM1, 63 TXOP1, 64 RXIM1, 65 RXIP1, 66 AV10_2, 67 RXIP2, 68 RXIM2, 69 EP

## ISO7740FDW
designator IC?
Integrated Circuit; Manufacturer_Name: Texas Instruments; Manufacturer_Part_Number: ISO7740FDW; Description: Digital Isolators High-Speed; Datasheet Link: http://www.ti.com/lit/ds/symlink/iso7740.pdf; Height: 2.65mm; Mouser Part Number: 595-ISO7740FDW; Mouser Price/Stock: https://www.mouser.co.uk/ProductDetail/Texas-Instruments/ISO7740FDW?qs=dSktwyqbRaV5rzfVkkDwLg%3D%3D; Arrow Part Number: ISO7740FDW; Arrow Price/Stock: https://www.arrow.com/en/products/iso7740fdw/texas-instruments?utm_currency=USD&region=nac
footprint SOIC127P1030X265-16N
pins: 1 VCC1, 2 GND1_1, 3 INA, 4 INB, 5 INC, 6 IND, 7 NC, 8 GND1_2, 9 GND2_1, 10 EN2, 11 OUTD, 12 OUTC, 13 OUTB, 14 OUTA, 15 GND2_2, 16 VCC2

## J8064D668ANL
designator J?
Connector; Manufacturer_Name: Pulse; Manufacturer_Part_Number: J8064D668ANL; Datasheet Link: https://productfinder.pulseelectronics.com/api/open/product-attachments/datasheet/j8064d668anl; Height: 13.61mm; Mouser Part Number: 673-J8064D668ANL; Mouser Price/Stock: https://www.mouser.co.uk/ProductDetail/Pulse-Electronics/J8064D668ANL?qs=URUHnk8TPXPL1B%2Fdi9dyhw%3D%3D
footprint J8064D668ANL
pins: A1 RX+_1, A2 RX-_1, A3 TX+_1, A4 CT_1, A5 CT_2, A6 TX-_1, A7 NC_1, A8 GND_1, A9 A_GREEN_1, A10 K_GREEN_1, A11 A_YELLOW_1, A12 K_YELLOW_1, B1 RX+_2, B2 RX-_2, B3 TX+_2, B4 CT_3, B5 CT_4, B6 TX-_2, B7 NC_2, B8 GND_2, B9 A_GREEN_2, B10 K_GREEN_2, B11 A_YELLOW_2, B12 K_YELLOW_2, C1 RX+_3, C2 RX-_3, C3 TX+_3, C4 CT_5, C5 CT_6, C6 TX-_3, C7 NC_3, C8 GND_3, C9 A_GREEN_3, C10 K_GREEN_3, C11 A_YELLOW_3, C12 K_YELLOW_3, D1 RX+_4, D2 RX-_4, D3 TX+_4, D4 CT_7, D5 CT_8, D6 TX-_4, D7 NC_4, D8 GND_4, D9 A_GREEN_4, D10 K_GREEN_4, D11 A_YELLOW_4, D12 K_YELLOW_4, E1 RX+_5, E2 RX-_5, E3 TX+_5, E4 CT_9, E5 CT_10, E6 TX-_5, E7 NC_5, E8 GND_5, E9 A_GREEN_5, E10 K_GREEN_5, E11 A_YELLOW_5, E12 K_YELLOW_5, F1 RX+_6, F2 RX-_6, F3 TX+_6, F4 CT_11, F5 CT_12, F6 TX-_6, F7 NC_6, F8 GND_6, F9 A_GREEN_6, F10 K_GREEN_6, F11 A_YELLOW_6, F12 K_YELLOW_6, MH1, MH2, MH3, MH4, MH5

## L-KLS1-RCA-102A-T-R
designator J?
Connector; Manufacturer_Name: KLS Electronic; Manufacturer_Part_Number: L-KLS1-RCA-102A-T-R; Datasheet Link: http://informozdisan.com/content/images/ozdisandatasheet/528301_2031515.PDF; Height: 13mm
footprint LKLS1RCA102ATR
pins: 1, 2, 3

## LM317DCYR
designator IC?
Integrated Circuit; Manufacturer_Name: Texas Instruments; Manufacturer_Part_Number: LM317DCYR; Datasheet Link: http://www.ti.com/lit/ds/symlink/lm317.pdf; Height: 1.8mm; Mouser Part Number: 595-LM317DCYR; Mouser Price/Stock: https://www.mouser.com/Search/Refine.aspx?Keyword=595-LM317DCYR; RS Part Number: 6613627P; RS Price/Stock: http://uk.rs-online.com/web/p/products/6613627P
footprint SOT230P700X180-4N
pins: 1 ADJUST, 2 OUTPUT (out), 3 INPUT (in), 4 OUTPUT_1 (out)

## LM324M
designator IC?
Integrated Circuit; Manufacturer_Name: onsemi; Manufacturer_Part_Number: LM324M; Datasheet Link: https://www.onsemi.com/pub/Collateral/LM2902A-D.pdf; Height: 1.8mm; Mouser Part Number: 512-LM324M; Mouser Price/Stock: https://www.mouser.co.uk/ProductDetail/onsemi-Fairchild/LM324M?qs=KwzQVQ%2FCbKZ05fg7jGPZ8Q%3D%3D; Arrow Part Number: LM324M; Arrow Price/Stock: https://www.arrow.com/en/products/lm324m/on-semiconductor?region=europe
footprint SOIC127P600X180-14N
pins: 1 OUT1, 2 IN1(-), 3 IN1(+), 4 VCC, 5 IN2(+), 6 IN2(-), 7 OUT2, 8 OUT3, 9 IN3(-), 10 IN3(+), 11 GND, 12 IN4(+), 13 IN4(-), 14 OUT4

## LM1085ISX-3.3
designator IC?
Integrated Circuit; Manufacturer_Name: Texas Instruments; Manufacturer_Part_Number: LM1085ISX-3.3; Datasheet Link: http://www.ti.com/lit/ds/symlink/lm1085.pdf; Mouser Part Number: 926-LM1085ISX-33; Mouser Price/Stock: https://www.mouser.com/Search/Refine.aspx?Keyword=926-LM1085ISX-33
footprint KTT0003B
pins: 1 ADJ, 2 OUTPUT, 3 INPUT, 4 TAB

## LM1085ISX-5.0_NOPB
designator IC?
Integrated Circuit; Manufacturer_Name: Texas Instruments; Manufacturer_Part_Number: LM1085ISX-5.0/NOPB; Datasheet Link: http://www.ti.com/lit/gpn/lm1085; Mouser Part Number: 926-LM1085ISX50NOPB; Mouser Price/Stock: https://www.mouser.com/Search/Refine.aspx?Keyword=926-LM1085ISX50NOPB
footprint KTT0003B
pins: 1 ADJ/GND, 2 OUTPUT, 3 INPUT, 4 TAB_(VOUT)

## LM2576D2TR4-5G
designator IC?
Integrated Circuit; Manufacturer_Name: ON Semiconductor; Manufacturer_Part_Number: LM2576D2TR4-5G; Datasheet Link: http://www.mouser.com/ds/2/308/LM2576-D-75194.pdf; Mouser Part Number: 863-LM2576D2TR4-5G; Mouser Price/Stock: https://www.mouser.com/Search/Refine.aspx?Keyword=863-LM2576D2TR4-5G; RS Part Number: 1869624P; RS Price/Stock: http://uk.rs-online.com/web/p/products/1869624P
footprint D2TSUFFIX-CASE936A-02-ISSUEC
pins: 1 VIN, 2 OUTPUT, 3 GROUND, 4 FEEDBACK, 5 ~{ON}/OFF

## LP38692MP-ADJ_NOPB
designator IC?
Integrated Circuit; Manufacturer_Name: Texas Instruments; Manufacturer_Part_Number: LP38692MP-ADJ/NOPB; Datasheet Link: http://www.ti.com/lit/ds/symlink/lp38692-adj.pdf; Height: 1.8mm; Mouser Part Number: 926-38692MP-ADJ/NOPB; Mouser Price/Stock: https://www.mouser.com/Search/Refine.aspx?Keyword=926-38692MP-ADJ%2FNOPB; RS Part Number: 5379171P; RS Price/Stock: http://uk.rs-online.com/web/p/products/5379171P
footprint SOT150P700X180-5N
pins: 1 VEN, 2 ADJ, 3 VOUT (out), 4 VIN (in), 5 GND_TAB (power)

## MAGJACK-A70-112-331N126
designator J?
Connector; Manufacturer_Name: Bel Magnetic Solutions; Manufacturer_Part_Number: MAGJACK-A70-112-331N126; Datasheet Link: http://www.link-pp.com/upload/file/20180411/20180411182938293829.pdf; Height: 13.3mm
footprint MAGJACKA70112331N126
pins: 1 TD1+, 2 TD1-, 3 TD2+, 4 TD2-_1, 5 TD2-_2, 6 TD2-_3, 7 TD3+, 8 TD3-, 9 TD4+, 10 TD4-, 11 VC1, 12 VC2, 13 VC3, 14 VC4, 15 GREEN_A, 16 GREEN_K, 17 YELLOW_A, 18 YELLOW_K, MH1, MH2

## MBRM120ET1G
designator D?
Diode; Manufacturer_Name: ON Semiconductor; Manufacturer_Part_Number: MBRM120ET1G; Datasheet Link: https://www.onsemi.com/pub/Collateral/MBRM120E-D.PDF; Arrow Part Number: MBRM120ET1G; Arrow Price/Stock: https://www.arrow.com/en/products/mbrm120et1g/on-semiconductor; Mouser Part Number: 863-MBRM120ET1G; Mouser Price/Stock: https://www.mouser.co.uk/ProductDetail/ON-Semiconductor/MBRM120ET1G?qs=3JMERSakeboGhtO%252BnVDl7w%3D%3D
footprint MBRM110LT1G
pins: 1 K, 2 A

## MCR03EZPFX1001
designator R?  Supplier 1: LCSC  Supplier Part Number 1: C253378
Resistor; Manufacturer_Name: ROHM Semiconductor; Manufacturer_Part_Number: MCR03EZPFX1001; Datasheet Link: http://docs-emea.rs-online.com/webdocs/1471/0900766b814716e9.pdf; Height: 0.55mm; RS Part Number: 9013553P; RS Price/Stock: http://uk.rs-online.com/web/p/products/9013553P
footprint RESC1608X55N
pins: 1, 2

## MIC29302WU
designator IC?
Integrated Circuit; Manufacturer_Name: Microchip; Manufacturer_Part_Number: MIC29302WU; Datasheet Link: http://docs-emea.rs-online.com/webdocs/13e4/0900766b813e4201.pdf; Mouser Part Number: 998-MIC29302WU; Mouser Price/Stock: https://www.mouser.com/Search/Refine.aspx?Keyword=998-MIC29302WU; RS Part Number: 0453574; RS Price/Stock: http://uk.rs-online.com/web/p/products/0453574
footprint 6-PIN-TO-263
pins: 1 EN, 2 IN, 3 GND, 4 OUT, 5 ADJ, 6 TAB

## MLP2520K1R0MT0S1
designator L?
Inductor; Manufacturer_Name: TDK; Manufacturer_Part_Number: MLP2520K1R0MT0S1; Datasheet Link: https://www.arrow.com/en/products/mlp2520k1r0mt0s1/tdk; Height: 1mm; Arrow Part Number: MLP2520K1R0MT0S1; Arrow Price/Stock: https://www.arrow.com/en/products/mlp2520k1r0mt0s1/tdk; Mouser Part Number: 810-MLP2520K1R0MT0S1; Mouser Price/Stock: https://www.mouser.com/Search/Refine.aspx?Keyword=810-MLP2520K1R0MT0S1
footprint INDC2520X100N
pins: 1, 2

## MP1484EN-LF
designator IC?
Integrated Circuit; Manufacturer_Name: Monolithic Power Systems (MPS); Manufacturer_Part_Number: MP1484EN-LF; Datasheet Link: http://www.mouser.com/datasheet/2/277/MP1484-1186021.pdf; Height: 1.7mm; Mouser Part Number: 946-MP1484ENLF; Mouser Price/Stock: https://www.mouser.com/Search/Refine.aspx?Keyword=946-MP1484ENLF
footprint SOIC127P600X170-9N
pins: 1 BS, 2 IN, 3 SW, 4 GND, 5 FB, 6 COMP, 7 EN, 8 SS, 9 EP_(GND)

## MX25L512EMI-10G
designator IC?
Integrated Circuit; Manufacturer_Name: Macronix; Manufacturer_Part_Number: MX25L512EMI-10G; Datasheet Link: https://www.macronix.com/Lists/Datasheet/Attachments/7398/MX25L512E,%203V,%20512Kb,%20v1.4.pdf; Height: 1.75mm; Arrow Part Number: MX25L512EMI-10G; Arrow Price/Stock: https://www.arrow.com/en/products/mx25l512emi-10g/macronix-international
footprint SOIC127P600X175-8N
pins: 1 CS#, 2 SO/SIO1, 3 WP#, 4 GND, 5 SI/SIO0, 6 SCLK, 7 HOLD#, 8 VCC

## N76E003AQ20
designator IC?
Integrated Circuit; Manufacturer_Name: Nuvoton; Manufacturer_Part_Number: N76E003AQ20; Datasheet Link: http://www.nuvoton.com/hq/resource-download.jsp?tp_GUID=DA00-N76E003; Height: 0.8mm
footprint QFN40P300X300X80-21N
pins: 1 RXD/AIN2/P0.7, 2 ~{INT1}/AIN0/P1.7, 3 GND, 4 [SDA]/TXD_1/ICPDA/OCDDA/P1.6, 5 VDD, 6 P1.5/PWM5/IC7/~{SS}, 7 P1.0/PWM2/IC2/SPCLK, 8 P1.1/PWM1/IC1/AIN7/CLO, 9 P1.2/PWM0/IC0, 10 P1.4/SDA/FB/PWM1, 11 P1.3/SCL/[STADC], 12 P0.0/PWM3/IC3/MOSI/T1, 13 P0.1/PWM4/IC4/MISO, 14 P0.2/ICPCK/OCDCK/RXD_1/[SCL], 15 P0.3/PWM5/IC5/AIN6, 16 AIN5/STADC/PWM3/IC3/P0.4, 17 ~{INT0}/OSCIN/AIN1/P3.0, 18 ~{RST}/P2.0, 19 TXD/AIN3/P0.6, 20 PWM2/IC6/T0/AIN4/P0.5, 21 EP

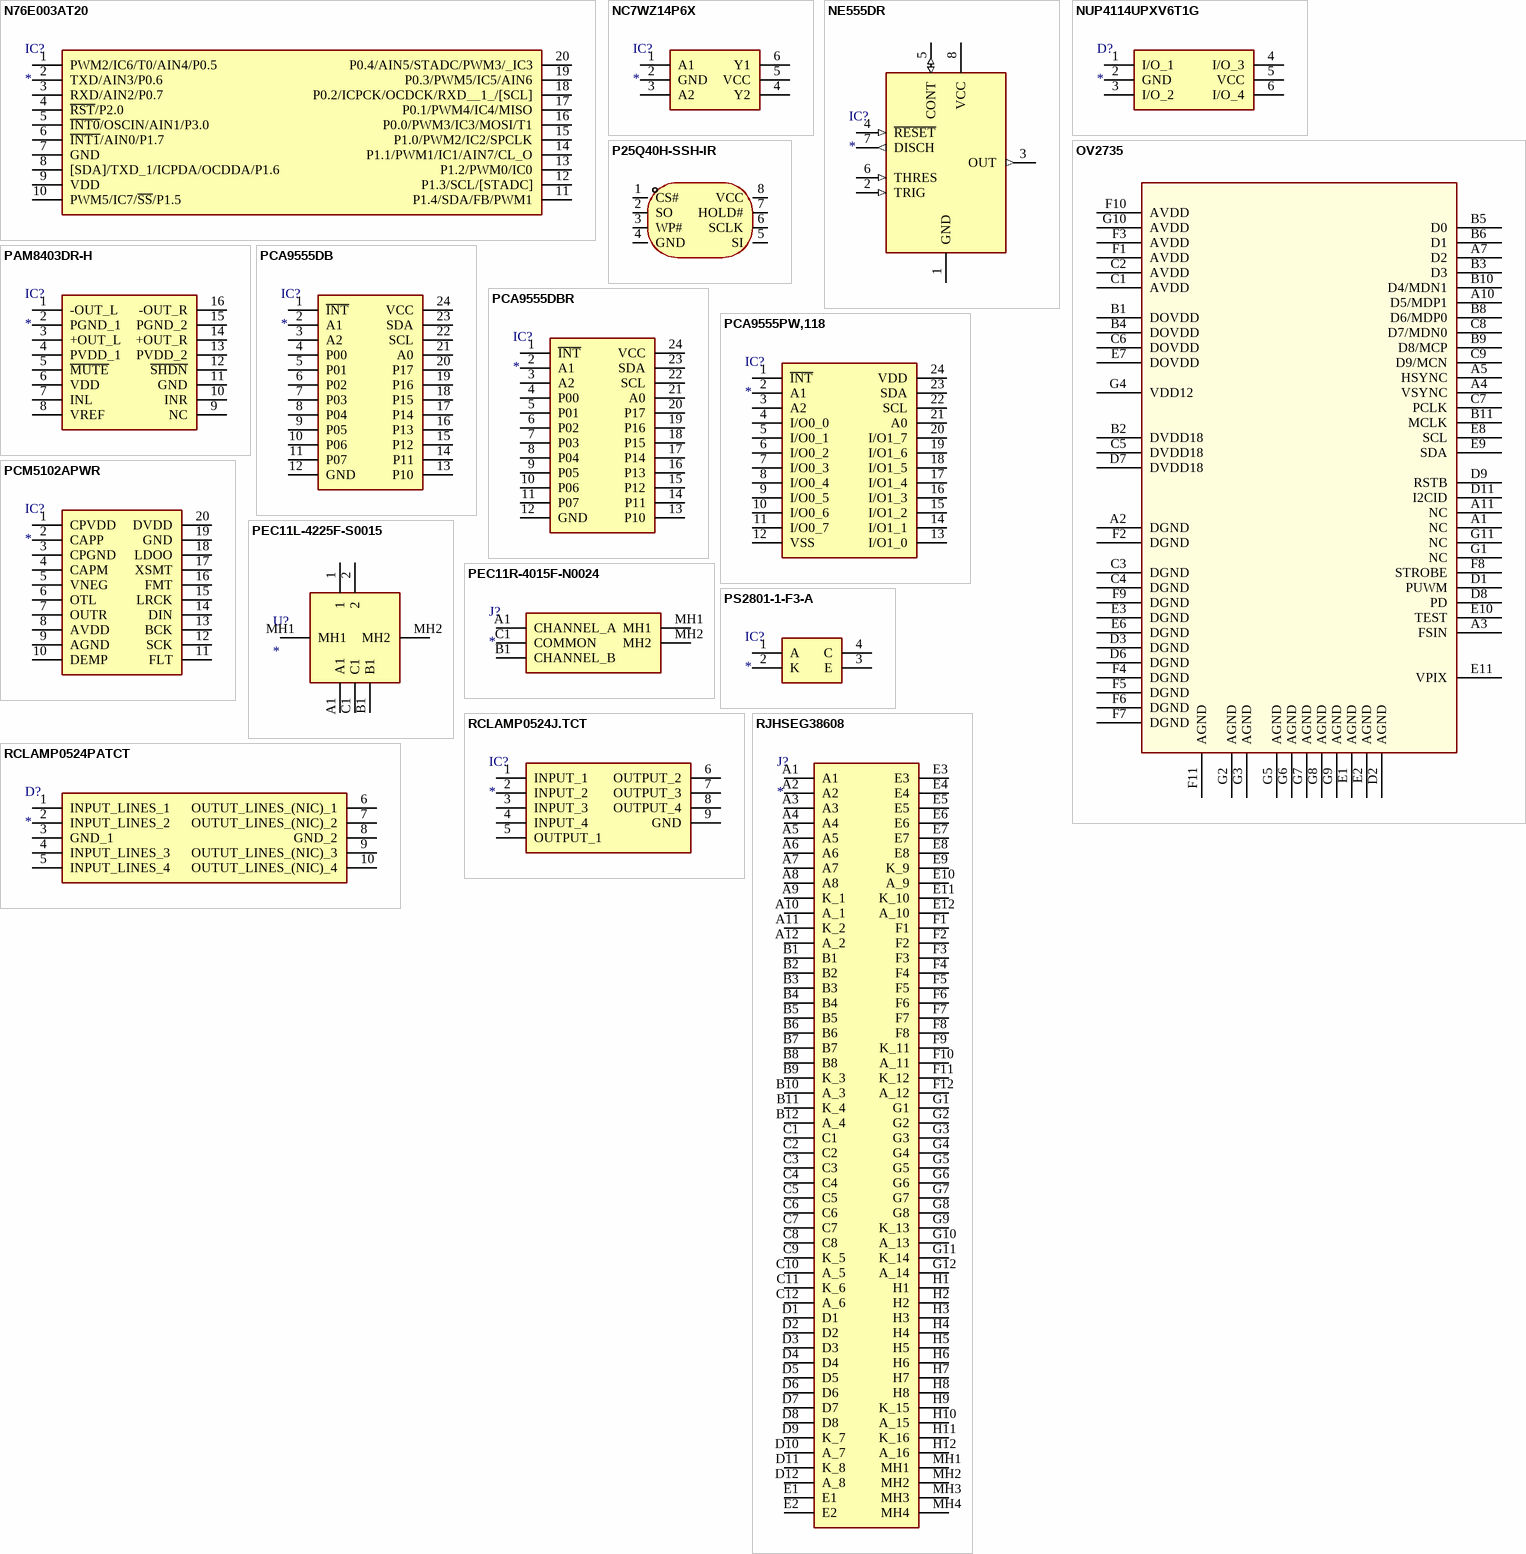
[diagram p3: symbols N76E003AT20 to RJHSEG38608]

## N76E003AT20
designator IC?
Integrated Circuit; Manufacturer_Name: Nuvoton; Manufacturer_Part_Number: N76E003AT20; Datasheet Link: http://www.nuvoton.com/resource-files/DS_N76E003_EN_Rev1.00.pdf; Height: 1.2mm
footprint SOP65P640X120-20N
pins: 1 PWM2/IC6/T0/AIN4/P0.5, 2 TXD/AIN3/P0.6, 3 RXD/AIN2/P0.7, 4 ~{RST}/P2.0, 5 ~{INT0}/OSCIN/AIN1/P3.0, 6 ~{INT1}/AIN0/P1.7, 7 GND, 8 [SDA]/TXD_1/ICPDA/OCDDA/P1.6, 9 VDD, 10 PWM5/IC7/~{SS}/P1.5, 11 P1.4/SDA/FB/PWM1, 12 P1.3/SCL/[STADC], 13 P1.2/PWM0/IC0, 14 P1.1/PWM1/IC1/AIN7/CL_O, 15 P1.0/PWM2/IC2/SPCLK, 16 P0.0/PWM3/IC3/MOSI/T1, 17 P0.1/PWM4/IC4/MISO, 18 P0.2/ICPCK/OCDCK/RXD__1_/[SCL], 19 P0.3/PWM5/IC5/AIN6, 20 P0.4/AIN5/STADC/PWM3/_IC3

## NC7WZ14P6X
designator IC?
Integrated Circuit; Manufacturer_Name: ON Semiconductor; Manufacturer_Part_Number: NC7WZ14P6X; Datasheet Link: https://componentsearchengine.com/Datasheets/2/NC7WZ14P6X.pdf; Height: 1.1mm; Mouser Part Number: 512-NC7WZ14P6X; Mouser Price/Stock: https://www.mouser.co.uk/ProductDetail/ON-Semiconductor-Fairchild/NC7WZ14P6X?qs=UJgUk%252BlQbC30MX7FYQ6V%252BA%3D%3D; Arrow Part Number: NC7WZ14P6X; Arrow Price/Stock: https://www.arrow.com/en/products/nc7wz14p6x/on-semiconductor
footprint SOT65P210X110-6N
pins: 1 A1, 2 GND, 3 A2, 4 Y2, 5 VCC, 6 Y1

## NE555DR
designator IC?
Integrated Circuit; Manufacturer_Name: Texas Instruments; Manufacturer_Part_Number: NE555DR; Datasheet Link: http://www.ti.com/lit/ds/symlink/ne555.pdf; Height: 1.75mm; Mouser Part Number: 595-NE555DR; Mouser Price/Stock: https://www.mouser.com/Search/Refine.aspx?Keyword=595-NE555DR; RS Part Number: 1218414; RS Price/Stock: http://uk.rs-online.com/web/p/products/1218414
footprint SOIC127P600X175-8N
pins: 1 GND (power), 2 TRIG (in), 3 OUT (out), 4 ~{RESET} (in), 5 CONT (io), 6 THRES (in), 7 DISCH (out), 8 VCC (power)

## NUP4114UPXV6T1G
designator D?
TVS Diode (Uni-directional); Manufacturer_Name: onsemi; Manufacturer_Part_Number: NUP4114UPXV6T1G; Datasheet Link: https://componentsearchengine.com/Datasheets/2/NUP4114UPXV6T1G.pdf; Height: 0.6mm; Mouser Part Number: 863-NUP4114UPXV6T1G; Mouser Price/Stock: https://www.mouser.co.uk/ProductDetail/onsemi/NUP4114UPXV6T1G?qs=N5dOQkml4H8XkujoEg%252BbGQ%3D%3D; Arrow Part Number: NUP4114UPXV6T1G; Arrow Price/Stock: https://www.arrow.com/en/products/nup4114upxv6t1g/on-semiconductor?region=nac
footprint SOTFL50P160X60-6N
pins: 1 I/O_1, 2 GND, 3 I/O_2, 4 I/O_3, 5 VCC, 6 I/O_4

## OV2735
designator U?  (value not drawn)
感光模组
footprint OV2735
pins: A1 NC, A2 DGND, A3 FSIN, A4 VSYNC, A5 HSYNC, A7 D2, A10 D5/MDP1, A11 NC, B1 DOVDD, B2 DVDD18, B3 D3, B4 DOVDD, B5 D0, B6 D1, B8 D6/MDP0, B9 D8/MCP, B10 D4/MDN1, B11 MCLK, C1 AVDD, C2 AVDD, C3 DGND, C4 DGND, C5 DVDD18, C6 DOVDD, C7 PCLK, C8 D7/MDN0, C9 D9/MCN, D1 PUWM, D2 AGND, D3 DGND, D6 DGND, D7 DVDD18, D8 PD, D9 RSTB, D11 I2CID, E1 AGND, E2 AGND, E3 DGND, E6 DGND, E7 DOVDD, E8 SCL, E9 SDA, E10 TEST, E11 VPIX, F1 AVDD, F2 DGND, F3 AVDD, F4 DGND, F5 DGND, F6 DGND, F7 DGND, F8 STROBE, F9 DGND, F10 AVDD, F11 AGND, G1 NC, G2 AGND, G3 AGND, G4 VDD12, G5 AGND, G6 AGND, G7 AGND, G8 AGND, G9 AGND, G10 AVDD, G11 NC